# Altium footprint library TXC.PcbLib: 1 footprints
Each footprint in its own frame and in the unit in brackets; x right, y up, seen from the top. Pads: shape width x height; smd on the part's side, far side on the other; paste and mask are expansions set on the pad; w line width, h text height; cw(c..) or ccw(c..) is an arc to the next point about the centre after c.
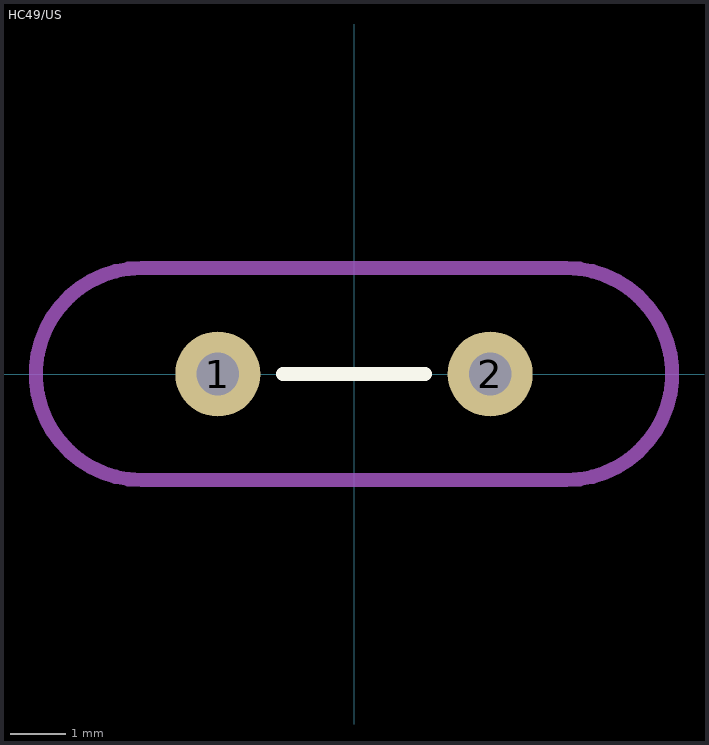
[diagram p0: the footprint, top view; thin cyan lines are the x and y axes]

## HC49/US [mil] "Low-profile crystal resonator"
height 137.8
pads (2):
  round 60 hole 30: 1(-96.06,0) 2(96.06,0)
Top Overlay:
  lines w10: -50,0 50,0
Mechanical 13:
  lines w10: -149.61,-74.8 cw(c-149.61,0) -149.61,74.8 149.61,74.8 cw(c149.61,0) 149.61,-74.8 -149.61,-74.8
3D body: height 137.8, standoff 0, extent -224.41,-74.8 0,0
3D body: height 137.8, standoff 0, extent 0,-74.8 224.41,0
3D body: height 137.8, standoff 0, extent 0,0 224.41,74.8
3D body: height 137.8, standoff 0, extent -224.41,0 0,74.8